# EAGLE library part SC810ULTRT (library Battery Chargers)
Charger IC Lithium-Ion 6-MLPD-UT (2x2) Manufacturer's datasheet <https://semtech.my.salesforce.com/sfc/p/#E0000000JelG/a/44000000MCNY/vrmyabxYiouQrHsDgDrnCNm65DZPtF1SHCYqaY6k8eA>
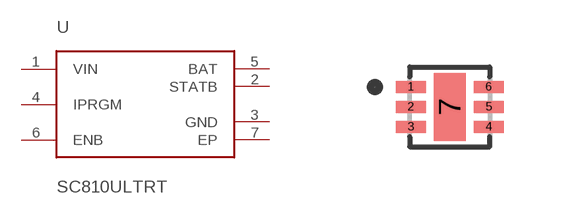
[diagram p4: symbol with the pads of SC810ULTRT; footprint SC810ULTRT]

Designator prefix U

## SC810ULTRT (CREATED_BY: PCBLayout.com; DIGIKEY_PART_NUMBER: SC810ULCT-ND; MANUFACTURER: Semtech Corporation; MPN: SC810ULTRT; PACKAGE: 6-MLPD-UT)  [SC810ULTRT]
1  VIN  in
2  STATB  out
3  GND  pwr
4  IPRGM  pas
5  BAT  out
6  ENB  pwr
7  EP  pwr

## Footprint SC810ULTRT (pad centres in mm)
smd 0.75 x 0.3: 1 -0.975,0.5; 2 -0.975,0; 3 -0.975,-0.5; 4 0.975,-0.5; 5 0.975,0; 6 0.975,0.5
smd 0.8 x 1.7: 7 0,0